# Altium footprint library Connectors.PcbLib: 38 footprints (part 2 of 3)
Each footprint in its own frame and in the unit in brackets; x right, y up, seen from the top. Pads: shape width x height; smd on the part's side, far side on the other; paste and mask are expansions set on the pad; w line width, h text height; cw(c..) or ccw(c..) is an arc to the next point about the centre after c.
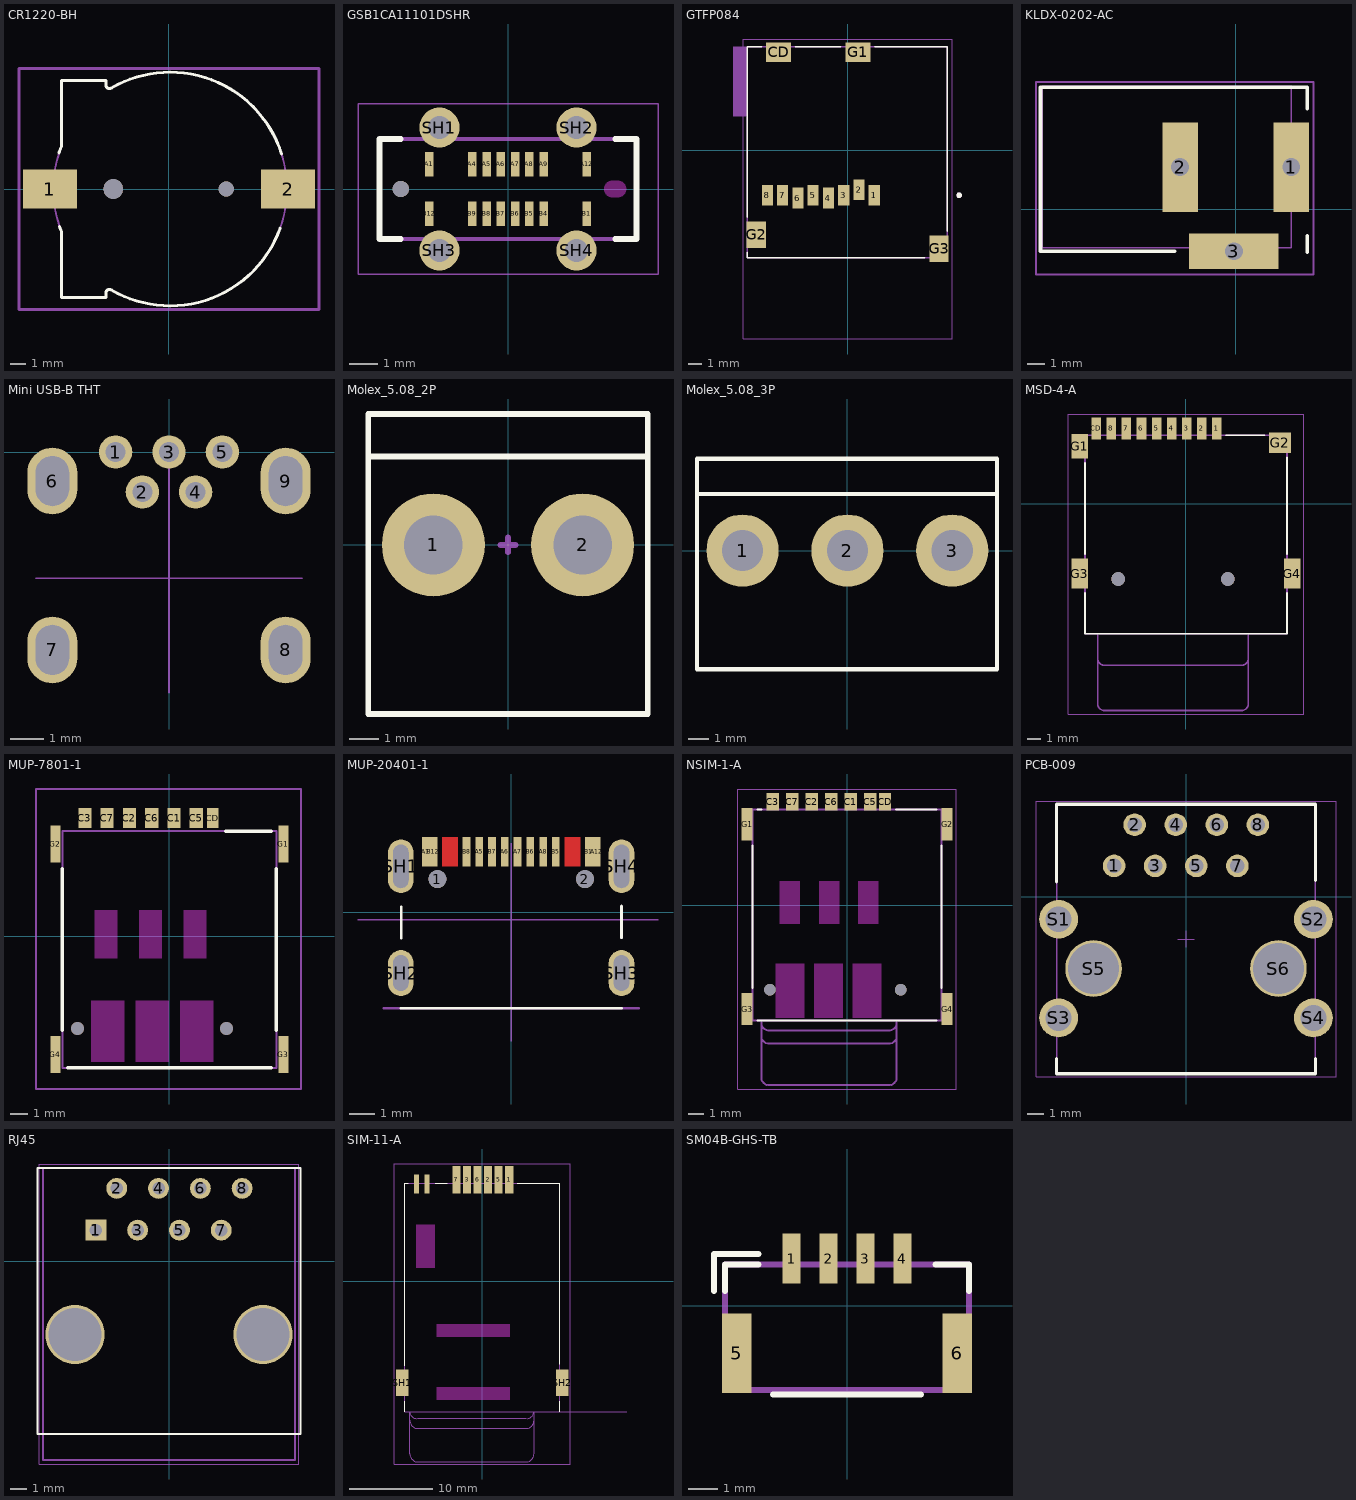
[diagram p1: the footprints below, top view; thin cyan lines are the x and y axes]

## CR1220-BH [mm] "BATTERY HOLDER COIN 12.5MM SMD"
pads (4):
  rect 3.6x2.6 smd: 1(-7.895,0) 2(7.895,0)
  round 1.3 hole 1.3 unplated: ""(-3.695,0)
  round 1 hole 1 unplated: ""(3.795,0)
Top Overlay:
  lines w0.2: -7.289,2.397 cw(c-0.199,0.082) -7.115,2.876 ; -7.26,-2.486 ccw(c-0.199,-0.082) -7.115,-2.876 ; -7.125,-2.85 -7.125,-7.2 -4.175,-7.2 -4.175,-6.88 ; -7.125,2.85 -7.125,7.2 -4.175,7.2 -4.175,6.88 ; -4.175,-6.881 cw(c-3.97,-6.87) -3.981,-6.665 ; -4.175,6.881 ccw(c-3.97,6.87) -3.981,6.665 ; -3.981,-6.665 cw(c-3.963,-7.014) -3.799,-6.705 ; -3.981,6.665 ccw(c-3.963,7.014) -3.799,6.705 ; -3.793,-6.709 ccw(c0.073,-0.013) 0.073,-7.745 ; -3.793,6.709 cw(c0.073,0.013) 0.073,7.745 ; 0.075,-7.745 ccw(c0.075,0) 7.374,-2.591 ; 0.075,7.745 cw(c0.075,0) 7.464,2.32
Mechanical 13:
  lines w0.127: -7.125,-2.85 -7.125,-7.2 -4.175,-7.2 -4.175,-6.88 ; -7.125,2.85 -7.125,7.2 -4.175,7.2 -4.175,6.88 ; -7.108,-2.893 cw(c0.054,0) -7.108,2.893 ; -4.175,-6.881 cw(c-3.97,-6.87) -3.981,-6.665 ; -4.175,6.881 ccw(c-3.97,6.87) -3.981,6.665 ; -3.981,-6.665 cw(c-3.963,-7.014) -3.799,-6.705 ; -3.981,6.665 ccw(c-3.963,7.014) -3.799,6.705 ; -3.793,-6.709 ccw(c0.073,-0.013) 0.073,-7.745 ; -3.793,6.709 cw(c0.073,0.013) 0.073,7.745 ; 0.075,-7.745 ccw(c0.075,0) 0.075,7.745
Mechanical 15:
  lines w0.2: -9.945,-8 -9.945,8 9.945,8 9.945,-8 -9.945,-8
3D body "1056.step": height 4.23, standoff -0.93, extent -9.227,-7.595 9.573,7.538

## GSB1CA11101DSHR [mm] "USB-C (USB TYPE-C) USB 2.0 Receptacle Connector 24 (16+8 Dummy) Position Surface Mount, Through Hole"
pads (21):
  rect 0.3x0.87 smd mask+0.01: A1(-2.75,0.865) A4(-1.25,0.865) A5(-0.75,0.865) A6(-0.25,0.865) A7(0.25,0.865) A8(0.75,0.865) A9(1.25,0.865) A12(2.75,0.865) B1(2.75,-0.865) B4(1.25,-0.865) B5(0.75,-0.865) B6(0.25,-0.865) B7(-0.25,-0.865) B8(-0.75,-0.865) B9(-1.25,-0.865) B12(-2.75,-0.865)
  round 1.4 hole 0.8 mask+0.025: SH1(-2.4,2.15) SH2(2.4,2.15) SH3(-2.4,-2.15) SH4(2.4,-2.15)
  round 0.57 hole 0.57 unplated: ""(-3.75,0)
Top Overlay:
  lines w0.2: -3.75,-1.75 -4.5,-1.75 -4.5,1.5 -4.5,1.75 -3.75,1.75 ; 3.75,-1.75 4.5,-1.75 4.5,1.75 3.75,1.75
Top Solder:
  region: 3.87,0.384 3.89,0.383 3.91,0.38 3.93,0.377 3.95,0.372 3.969,0.366 3.988,0.359 4.007,0.352 4.025,0.343 4.043,0.333 4.06,0.323 4.076,0.311 4.092,0.299 4.108,0.286 4.122,0.272 4.136,0.258 4.149,0.242 4.161,0.226 4.173,0.21 4.183,0.192 4.193,0.175 4.202,0.157 4.209,0.138 4.216,0.119 4.222,0.1 4.227,0.08 4.23,0.06 4.233,0.04 4.234,0.02 4.235,0 4.234,-0.02 4.233,-0.04 4.23,-0.06 4.227,-0.08 4.222,-0.1 4.216,-0.119 4.209,-0.138 4.202,-0.157 4.193,-0.175 4.183,-0.192 4.173,-0.21 4.161,-0.226 4.149,-0.242 4.136,-0.258 4.122,-0.272 4.108,-0.286 4.092,-0.299 4.076,-0.311 4.06,-0.323 4.043,-0.333 4.025,-0.343 4.007,-0.352 3.988,-0.359 3.969,-0.366 3.95,-0.372 3.93,-0.377 3.91,-0.38 3.89,-0.383 3.87,-0.384 3.85,-0.385 3.65,-0.385 3.63,-0.384 3.61,-0.383 3.59,-0.38 3.57,-0.377 3.55,-0.372 3.531,-0.366 3.512,-0.359 3.493,-0.352 3.475,-0.343 3.457,-0.333 3.44,-0.323 3.424,-0.311 3.408,-0.299 3.392,-0.286 3.378,-0.272 3.364,-0.258 3.351,-0.242 3.339,-0.226 3.327,-0.21 3.317,-0.193 3.307,-0.175 3.298,-0.157 3.291,-0.138 3.284,-0.119 3.278,-0.1 3.273,-0.08 3.27,-0.06 3.267,-0.04 3.266,-0.02 3.265,0 3.266,0.02 3.267,0.04 3.27,0.06 3.273,0.08 3.278,0.1 3.284,0.119 3.291,0.138 3.298,0.157 3.307,0.175 3.317,0.192 3.327,0.21 3.339,0.226 3.351,0.242 3.364,0.258 3.378,0.272 3.392,0.286 3.408,0.299 3.424,0.311 3.44,0.323 3.458,0.333 3.475,0.343 3.493,0.352 3.512,0.359 3.531,0.366 3.55,0.372 3.57,0.377 3.59,0.38 3.61,0.383 3.63,0.384 3.65,0.385 3.85,0.385
Bottom Solder:
  region: 3.87,0.384 3.89,0.383 3.91,0.38 3.93,0.377 3.95,0.372 3.969,0.366 3.988,0.359 4.007,0.352 4.025,0.343 4.043,0.333 4.06,0.323 4.076,0.311 4.092,0.299 4.108,0.286 4.122,0.272 4.136,0.258 4.149,0.242 4.161,0.226 4.173,0.21 4.183,0.192 4.193,0.175 4.202,0.157 4.209,0.138 4.216,0.119 4.222,0.1 4.227,0.08 4.23,0.06 4.233,0.04 4.234,0.02 4.235,0 4.234,-0.02 4.233,-0.04 4.23,-0.06 4.227,-0.08 4.222,-0.1 4.216,-0.119 4.209,-0.138 4.202,-0.157 4.193,-0.175 4.183,-0.192 4.173,-0.21 4.161,-0.226 4.149,-0.242 4.136,-0.258 4.122,-0.272 4.108,-0.286 4.092,-0.299 4.076,-0.311 4.06,-0.323 4.043,-0.333 4.025,-0.343 4.007,-0.352 3.988,-0.359 3.969,-0.366 3.95,-0.372 3.93,-0.377 3.91,-0.38 3.89,-0.383 3.87,-0.384 3.85,-0.385 3.65,-0.385 3.63,-0.384 3.61,-0.383 3.59,-0.38 3.57,-0.377 3.55,-0.372 3.531,-0.366 3.512,-0.359 3.493,-0.352 3.475,-0.343 3.457,-0.333 3.44,-0.323 3.424,-0.311 3.408,-0.299 3.392,-0.286 3.378,-0.272 3.364,-0.258 3.351,-0.242 3.339,-0.226 3.327,-0.21 3.317,-0.193 3.307,-0.175 3.298,-0.157 3.291,-0.138 3.284,-0.119 3.278,-0.1 3.273,-0.08 3.27,-0.06 3.267,-0.04 3.266,-0.02 3.265,0 3.266,0.02 3.267,0.04 3.27,0.06 3.273,0.08 3.278,0.1 3.284,0.119 3.291,0.138 3.298,0.157 3.307,0.175 3.317,0.192 3.327,0.21 3.339,0.226 3.351,0.242 3.364,0.258 3.378,0.272 3.392,0.286 3.408,0.299 3.424,0.311 3.44,0.323 3.458,0.333 3.475,0.343 3.493,0.352 3.512,0.359 3.531,0.366 3.55,0.372 3.57,0.377 3.59,0.38 3.61,0.383 3.63,0.384 3.65,0.385 3.85,0.385
Keep-Out Layer:
  board cut-out: 3.85,0.285 3.65,0.285 3.635,0.285 3.62,0.283 3.605,0.281 3.591,0.279 3.576,0.275 3.562,0.271 3.548,0.266 3.534,0.26 3.521,0.254 3.508,0.247 3.495,0.239 3.482,0.231 3.471,0.221 3.459,0.212 3.448,0.202 3.438,0.191 3.429,0.179 3.419,0.168 3.411,0.155 3.403,0.143 3.396,0.129 3.39,0.116 3.384,0.102 3.379,0.088 3.375,0.074 3.371,0.059 3.369,0.045 3.367,0.03 3.365,0.015 3.365,0 3.365,-0.015 3.367,-0.03 3.369,-0.045 3.371,-0.059 3.375,-0.074 3.379,-0.088 3.384,-0.102 3.39,-0.116 3.396,-0.129 3.403,-0.143 3.411,-0.155 3.419,-0.168 3.429,-0.179 3.438,-0.191 3.448,-0.202 3.459,-0.212 3.471,-0.221 3.482,-0.231 3.495,-0.239 3.508,-0.247 3.521,-0.254 3.534,-0.26 3.548,-0.266 3.562,-0.271 3.576,-0.275 3.591,-0.279 3.605,-0.281 3.62,-0.283 3.635,-0.285 3.65,-0.285 3.85,-0.285 3.865,-0.285 3.88,-0.283 3.895,-0.281 3.909,-0.279 3.924,-0.275 3.938,-0.271 3.952,-0.266 3.966,-0.26 3.979,-0.254 3.992,-0.247 4.005,-0.239 4.018,-0.231 4.029,-0.221 4.041,-0.212 4.052,-0.202 4.062,-0.191 4.071,-0.179 4.081,-0.168 4.089,-0.155 4.097,-0.143 4.104,-0.129 4.11,-0.116 4.116,-0.102 4.121,-0.088 4.125,-0.074 4.129,-0.059 4.131,-0.045 4.133,-0.03 4.135,-0.015 4.135,0 4.135,0.015 4.133,0.03 4.131,0.045 4.129,0.059 4.125,0.074 4.121,0.088 4.116,0.102 4.11,0.116 4.104,0.129 4.097,0.143 4.089,0.155 4.081,0.168 4.071,0.179 4.062,0.191 4.052,0.202 4.041,0.212 4.029,0.221 4.018,0.231 4.005,0.239 3.992,0.247 3.979,0.254 3.966,0.26 3.952,0.266 3.938,0.271 3.924,0.275 3.909,0.279 3.895,0.281 3.88,0.283 3.865,0.285
Mechanical 13:
  lines w0.127: -4.5,-1.75 4.5,-1.75 4.5,1.75 -4.5,1.75 -4.5,-1.75
Mechanical 15:
  lines w0.05: -5.25,-2.975 5.25,-2.975 5.25,2.975 -5.25,2.975 -5.25,-2.975
3D body "step_temp.STEP": height 7.4, standoff -0.95, extent -5,-2.3 5,2.3

## GTFP084 [mm] "9 (8 + 1) Position Card Connector Secure Digital - microSD™ Surface Mount, Right Angle Gold"
pads (12):
  rect 0.8x1.5 smd mask+0.05: 1(1.915,-3.225) 2(0.815,-2.825) 3(-0.285,-3.225) 4(-1.385,-3.425) 5(-2.485,-3.225) 6(-3.585,-3.425) 7(-4.685,-3.225) 8(-5.785,-3.225)
  rect 1.8x1.4 smd: CD(-4.975,7.075) G1(0.725,7.075)
  rect 1.4x1.9 smd: G2(-6.575,-6.075) G3(6.575,-7.075)
Top Overlay:
  circle w0.2: c8.025,-3.225 r0.1
  lines w0.127: -7.225,-7.345 -7.225,-7.725 5.555,-7.725 ; -7.225,-4.805 -7.225,7.475 -6.195,7.475 ; -3.755,7.475 -0.495,7.475 ; 1.945,7.475 7.175,7.475 7.175,-5.805
Mechanical 13:
  circle w0.2: c8.025,-3.225 r0.1
  lines w0.127: -7.225,-7.725 7.175,-7.725 7.175,7.475 -7.225,7.475 -7.225,-7.725
Mechanical 15:
  region: -7.225,2.475 -8.225,2.475 -8.225,7.475 -7.225,7.475
  lines w0.05: -7.525,-13.575 -7.525,8.025 7.525,8.025 7.525,-13.575 -7.525,-13.575
3D body "step_temp.STEP": height 1.85, standoff 0, extent -7.225,-8.925 7.175,7.475

## KLDX-0202-AC [mm] "CONN PWR JACK 2X5.5MM KINKED PIN"
pads (3):
  rect 2x5 hole 1 square: 1(3.1,2.35) 2(-3.1,2.35)
  rect 5x2 hole 1 square: 3(-0.1,-2.35)
Top Overlay:
  lines w0.2: -3.4,-2.35 -10.9,-2.35 -10.9,6.8 4,6.8 4,5.6 ; 4,-2.4 4,-1.5
Mechanical 13:
  lines w0.1: -10.8,-2.15 3.1,-2.15 3.1,6.85 -10.8,6.85 -10.8,-2.15
Mechanical 15:
  lines w0.1: -11.15,-3.65 4.35,-3.65 4.35,7.1 -11.15,7.1 -11.15,-3.65
3D body "694108301002 (rev1).stp": height 10.85, standoff -3.64, extent -10.65,-2.65 3.85,6.85

## Mini USB-B THT [mm]
pads (9):
  round 1 hole 0.6: 1(-1.6,0) 2(-0.8,-1.2) 3(0,0) 4(0.8,-1.2) 5(1.6,0)
  oval 1.5x2 hole 1 slot 1.5 at 90 deg: 6(-3.5,-0.87) 7(-3.5,-5.939) 8(3.5,-5.939) 9(3.5,-0.87)
Top Courtyard:
  lines w0.05: -4,-3.788 4,-3.788 ; 0,-7.219 0,0
Mechanical 15:
  text "NOT COMPLETE" at -6.25,-8 h1.52
3D body "XM7D-0512.STEP": height 4, standoff -1.9, extent -4.05,-9.764 4.05,0.086

## Molex_5.08_2P [mm]
pads (2):
  round 3.5 hole 2: 1(-2.54,0) 2(2.54,0)
Top Overlay:
  lines w0.2: -4.75,3 4.75,3 ; -4.75,-5.75 4.75,-5.75 4.75,4.45 -4.75,4.45 -4.75,-5.75
Top Component Center:
  lines w0.2: -0.25,0 0.25,0 ; 0,-0.25 0,0.25
3D body "010321021.stp": height 13.85, standoff -3.6, extent -4.54,-5.6 4.54,5.8

## Molex_5.08_3P [mm]
pads (3):
  round 3.5 hole 2: 1(-5.08,0) 2(0,0) 3(5.08,0)
Top Overlay:
  lines w0.2: -7.25,2.75 7.25,2.75 ; -7.29,-5.75 7.25,-5.75 7.25,4.45 -7.29,4.45 -7.29,-5.75
3D body "010321031.stp": height 13.85, standoff -3.6, extent -7.08,-5.6 7.08,5.8

## MSD-4-A [mm] "9 (8 + 1) Position Card Connector microSD™ Surface Mount, Right Angle Gold"
pads (15):
  rect 0.7x1.6 smd: 1(2.25,5.5) 2(1.15,5.5) 3(0.05,5.5) 4(-1.05,5.5) 5(-2.15,5.5) 6(-3.25,5.5) 7(-4.35,5.5) 8(-5.45,5.5) CD(-6.55,5.5)
  rect 1.2x1.8 smd: G1(-7.75,4.2)
  rect 1.6x1.5 smd: G2(6.85,4.45)
  rect 1.2x2.2 smd: G3(-7.75,-5.1) G4(7.75,-5.1)
  round 1 hole 1 unplated: ""(-4.95,-5.5) ""(3.05,-5.5)
Top Overlay:
  lines w0.127: -7.375,-6.52 -7.375,-9.5 7.375,-9.5 7.375,-6.52 ; -7.375,-3.68 -7.375,2.98 ; 2.92,5 5.73,5 ; 7.375,-3.68 7.375,3.38
Mechanical 13:
  lines w0.127: -6.45,-11.3 ccw(c-5.95,-11.3) -5.95,-11.8 4.05,-11.8 ccw(c4.05,-11.3) 4.55,-11.3 ; -6.45,-9.5 -6.45,-14.6 ccw(c-5.95,-14.6) -5.95,-15.1 4.05,-15.1 ccw(c4.05,-14.6) 4.55,-14.6 4.55,-9.5 ; -6.45,-9.5 4.55,-9.5 ; -6.45,-9.5 -7.375,-9.5 -7.375,5 7.375,5 7.375,-9.5 4.55,-9.5
Mechanical 15:
  lines w0.05: -8.6,-15.35 -8.6,6.55 8.6,6.55 8.6,-15.35 -8.6,-15.35
3D body "Same_Sky_MSD-4-A.step": height 1.9, standoff -0.5, extent -8.15,-9.5 8,5.55

## MUP-7801-1 [mm]
pads (11):
  rect 0.75x1.13 smd mask+0.05: C1(0.26,6.743) C2(-2.28,6.743) C3(-4.82,6.743) C6(-1.01,6.743) C7(-3.55,6.743)
  rect 0.75x1.13 smd mask+0.03: C5(1.53,6.743)
  rect 0.65x1.13 smd mask+0.03: CD(2.48,6.743)
  rect 0.58x2.1 smd: G1(6.5,5.258) G2(-6.5,5.258) G3(6.5,-6.742) G4(-6.5,-6.742)
via -5.25,-5.242 diameter 0.75 hole 0.75
via 3.25,-5.242 diameter 0.75 hole 0.75
Top Layer keep-out:
  rectangle: -4.47,-7.149 -2.57,-3.649
  rectangle: -1.93,-7.149 -0.03,-3.649
  rectangle: -4.27,-1.249 -2.97,1.501
  rectangle: -1.73,-1.249 -0.43,1.501
  rectangle: 0.81,-1.249 2.11,1.501
  rectangle: 0.61,-7.149 2.51,-3.649
Top Overlay:
  lines w0.2: -6.1,-5.349 -6.1,3.851 ; -5.8,-7.499 5.8,-7.499 ; 3.2,6.001 5.8,6.001 ; 6.1,-5.349 6.1,3.851
Mechanical 13:
  lines w0.1: -6.1,-7.499 6.1,-7.499 6.1,6.001 -6.1,6.001 -6.1,-7.499
Mechanical 15:
  lines w0.1: -7.6,-8.7 7.5,-8.7 7.5,8.4 -7.6,8.4 -7.6,-8.7
3D body "Same_Sky_NSIM-1-A.step": height 1.38, standoff -0.39, extent -6.59,-7.54 6.5,7.04

## MUP-20401-1 [mm] "MUP-U20401-1 - USB Type-C Connector Receptacle SMT 16Pin L7.35"
pads (20):
  round 0.7 hole 0.7 unplated mask+0.01: 1(-2.89,1.303) 2(2.89,1.303)
  round 0.025 smd mask+0.01: 3(-2.4,2.375) 4(2.4,2.375)
  rect 0.3x1.15 smd mask+0.01: A1(-3.345,2.378) A12(3.344,2.378) B1(3.044,2.378) B12(-3.045,2.378)
  rect 0.3x1.15 smd mask+0.06: A5(-1.25,2.378) A6(-0.25,2.378) A7(0.25,2.378) A8(1.25,2.378) B5(1.75,2.378) B6(0.75,2.378) B7(-0.75,2.378) B8(-1.75,2.378)
  oval 1x2.1 hole 0.6 slot 1.7 at 90 deg: SH1(-4.32,1.803) SH4(4.32,1.803)
  oval 1x1.8 hole 0.6 slot 1.4 at 90 deg: SH2(-4.32,-2.377) SH3(4.32,-2.377)
Top Layer:
  region: 2.1,1.8 2.7,1.8 2.7,2.95 2.1,2.95
  region: -2.7,1.8 -2.7,2.95 -2.1,2.95 -2.1,1.8
Top Overlay:
  lines w0.1: -4.32,-3.75 4.32,-3.75 ; -4.305,-1.022 -4.305,0.228 ; 4.32,-1 4.32,0.25
Mechanical 15:
  lines w0.05: -6,-0.288 5.75,-0.288 ; 0,-5.038 0,-0.288 0,2.712
  lines w0.1: -5,-3.75 -4.5,-3.75 5,-3.75
3D body "USB4105-15-A-120.stp": height 3.26, standoff -1.2, extent -4.47,-5 4.47,2.7

## NSIM-1-A [mm] "7 (6 + 1) Position Card Connector NANO SIM Surface Mount, Right Angle Gold"
pads (13):
  rect 0.8x1.14 smd: C1(0.25,6.74) C2(-2.29,6.74) C3(-4.83,6.74) C5(1.52,6.74) C6(-1.02,6.74) C7(-3.56,6.74) CD(2.47,6.74)
  rect 0.7x2.1 smd: G1(-6.5,5.26) G2(6.5,5.26) G3(-6.5,-6.74) G4(6.5,-6.74)
  round 0.75 hole 0.75 unplated: ""(-5.01,-5.49) ""(3.49,-5.49)
Top Overlay:
  lines w0.127: -6.145,-5.37 -6.145,3.89 ; -5.83,-7.49 5.83,-7.49 ; -5.83,6.23 -5.55,6.23 ; 3.19,6.23 5.83,6.23 ; 6.145,-5.37 6.145,3.89
Keep-Out Layer:
  region: 2.215,-7.3 0.365,-7.3 0.365,-3.8 2.215,-3.8
  region: -0.285,-7.3 -2.135,-7.3 -2.135,-3.8 -0.285,-3.8
  region: -2.785,-7.3 -4.635,-7.3 -4.635,-3.8 -2.785,-3.8
  region: 2.02,-1.195 0.72,-1.195 0.72,1.555 2.02,1.555
  region: -0.52,-1.195 -1.82,-1.195 -1.82,1.555 -0.52,1.555
  region: -3.06,-1.195 -4.36,-1.195 -4.36,1.555 -3.06,1.555
Mechanical 13:
  lines w0.127: -5.57,-8.49 ccw(c-5.07,-8.49) -5.07,-8.99 2.73,-8.99 ccw(c2.73,-8.49) 3.23,-8.49 ; -5.57,-7.64 ccw(c-5.07,-7.64) -5.07,-8.14 2.73,-8.14 ccw(c2.73,-7.64) 3.23,-7.64 ; -5.57,-7.49 -5.57,-11.19 ccw(c-5.07,-11.19) -5.07,-11.69 2.73,-11.69 ccw(c2.73,-11.19) 3.23,-11.19 3.23,-7.49 ; -5.57,-7.49 -6.145,-7.49 -6.145,6.23 6.145,6.23 6.145,-7.49 3.23,-7.49 ; -5.57,-7.49 3.23,-7.49
Mechanical 15:
  lines w0.05: -7.1,-11.94 -7.1,7.56 7.1,7.56 7.1,-11.94 -7.1,-11.94
3D body "Same_Sky_NSIM-1-A.step": height 1.38, standoff -0.39, extent -6.545,-7.5 6.545,7.08

## PCB-009 [mm]
pads (14):
  round 1.4 hole 0.9: 1(-4.445,1.905) 2(-3.175,4.445) 3(-1.905,1.905) 4(-0.635,4.445) 5(0.635,1.905) 6(1.905,4.445) 7(3.175,1.905) 8(4.445,4.445)
  round 2.4 hole 1.6: S1(-7.875,-1.395) S2(7.875,-1.395) S3(-7.875,-7.495) S4(7.875,-7.495)
  round 3.5 hole 3.17: S5(-5.715,-4.445) S6(5.715,-4.445)
Top Overlay:
  lines w0.2: -8,-10 -8,-10.944 8,-10.944 8,-10 ; -8,0.9 -8,5.706 8,5.706 8,1
Top Courtyard:
  lines w0.05: -9.275,-11.144 9.275,-11.144 9.275,5.906 -9.275,5.906 -9.275,-11.144
Top Component Outline:
  lines w0.1: -8,-10.944 -8,5.706 8,5.706 8,-10.944 -8,-10.944
Top Component Center:
  lines w0.05: -0.5,-2.619 0.5,-2.619 ; 0,-3.119 0,-2.119
3D body "615008140421 (rev1).stp": height 16.65, standoff -3.55, extent -8,-10.944 8,5.706

## PCBComponent_1 [mm]

## RJ45 [mm]
pads (10):
  rect 1.268x1.268 / inner round 1.268 / far side rect 1.268x1.268 hole 0.76: 1(-4.445,1.905)
  round 1.268 hole 0.76: 2(-3.175,4.445) 3(-1.905,1.905) 4(-0.635,4.445) 5(0.635,1.905) 6(1.905,4.445) 7(3.175,1.905) 8(4.445,4.445)
  round 3.6 hole 3.2 unplated: ""(-5.715,-4.445) ""(5.715,-4.445)
Top Overlay:
  lines w0.127: -8,-10.5 -8,5.675 8,5.675 8,-10.5 -8,-10.5
Mechanical 13:
  lines w0.127: -7.65,-12.065 -7.65,5.675 7.65,5.675 7.65,-12.065 -7.65,-12.065
Mechanical 15:
  lines w0.05: -7.9,-12.315 -7.9,5.925 7.9,5.925 7.9,-12.315 -7.9,-12.315
3D body "step_temp.STEP": height 12.95, standoff -3.25, extent -7.65,-12.065 7.65,5.675

## SIM-11-A [mm] "8 (6 + 2) Position Card Connector SIM Card Surface Mount, Right Angle Gold"
pads (10):
  rect 1x3.3 smd: 1(3.24,12.25) 2(0.7,12.25) 3(-1.84,12.25) 5(1.97,12.25) 6(-0.57,12.25) 7(-3.11,12.25)
  rect 0.6x2.3 smd: CD1(-7.95,11.75) CD2(-6.66,11.75)
  rect 1.5x3.2 smd: SH1(-9.64,-12.25) SH2(9.64,-12.25)
Top Overlay:
  lines w0.127: -9.35,-15.75 -9.35,-14.45 ; -9.35,-10.2 -9.35,11.8 -8.95,11.8 ; -5.7,11.8 -4.2,11.8 ; 4.2,11.8 9.35,11.8 9.35,-10 ; 9.35,-15.75 9.35,-14.45
Keep-Out Layer:
  region: 3.32,-14.28 -5.5,-14.28 -5.5,-12.78 3.32,-12.78
  region: -5.75,1.65 -7.95,1.65 -7.95,6.85 -5.75,6.85
  region: 3.32,-6.68 -5.5,-6.68 -5.5,-5.18 3.32,-5.18
Mechanical 13:
  lines w0.127: -8.751,-15.745 ccw(c-7.85,-15.65) -7.755,-16.551 ; -7.75,-16.55 5.25,-16.55 ; 5.255,-16.551 ccw(c5.35,-15.65) 6.251,-15.745 ; 17.45,-15.75 9.35,-15.75 ; -8.75,-16.75 ccw(c-7.75,-16.75) -7.75,-17.75 5.25,-17.75 ccw(c5.25,-16.75) 6.25,-16.75 ; -8.75,-16.75 -8.75,-15.75 ; -8.75,-16.75 -8.75,-20.79 ccw(c-7.75,-20.79) -7.75,-21.79 5.25,-21.79 ccw(c5.25,-20.79) 6.25,-20.79 6.25,-16.75 ; -8.75,-15.75 -9.35,-15.75 -9.35,11.8 9.35,11.8 9.35,-15.75 ; -8.75,-15.75 6.25,-15.75 ; 6.25,-16.75 6.25,-15.75 ; 6.25,-15.75 9.35,-15.75
  text "PCB Edge" at 10.8,-15.5 h1
Mechanical 15:
  lines w0.05: -10.64,-22.04 -10.64,14.15 10.64,14.15 10.64,-22.04 -10.64,-22.04
3D body "Same_Sky_SIM-11-A.step": height 1.95, standoff 0, extent -10.2,-15.8 10.2,12.25

## SM04B-GHS-TB [mm]
pads (6):
  rect 0.6x1.7 smd: 1(-1.875,1.6) 2(-0.625,1.6) 3(0.625,1.6) 4(1.875,1.6)
  rect 1x2.7 smd: 5(-3.725,-1.6) 6(3.725,-1.6)
Top Overlay:
  lines w0.2: -4.5,0.5 -4.5,1.75 -3,1.75 ; -4.125,0.5 -4.125,1.4 -3,1.4 ; -2.5,-3 2.5,-3 ; 3,1.4 4.125,1.4 4.125,0.5
Mechanical 13:
  lines w0.2: -4.125,-2.85 -4.125,1.4 4.125,1.4 4.125,-2.85 -4.125,-2.85
3D body "SM04B-GHS-TB_LF__SN_.stp": height 4.45, standoff 0, extent -4.12,-2.725 4.13,2.125